# Altium footprint library IN-S126TASRGB.PcbLib: 1 footprints
Each footprint in its own frame and in the unit in brackets; x right, y up, seen from the top. Pads: shape width x height; smd on the part's side, far side on the other; paste and mask are expansions set on the pad; w line width, h text height; cw(c..) or ccw(c..) is an arc to the next point about the centre after c.
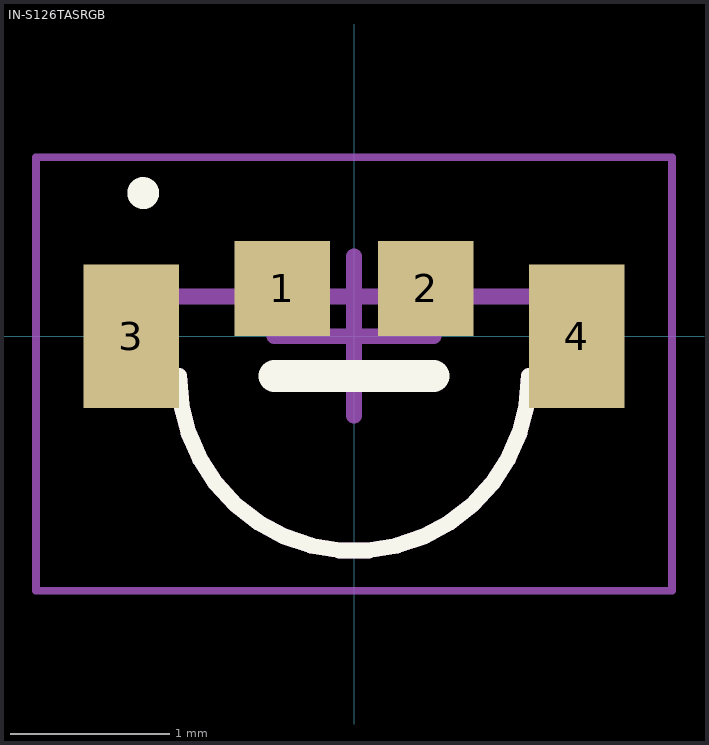
[diagram p0: the footprint, top view; thin cyan lines are the x and y axes]

## IN-S126TASRGB [mm] "Right angle RGB"
height 1
pads (4):
  rect 0.6x0.6 smd: 1(-0.45,0.3) 2(0.45,0.3)
  rect 0.6x0.9 smd: 3(-1.4,0) 4(1.4,0)
Top Overlay:
  circle w0.1: c-1.325,0.9 r0.05
  lines w0.1: -1.1,-0.25 ccw(c0,-0.25) 1.1,-0.25
  lines w0.2: -0.5,-0.25 0.5,-0.25
Mechanical 13:
  lines w0.1: -1.6,-0.25 -1.1,-0.25 ccw(c0,-0.25) 1.1,-0.25 1.6,-0.25 1.6,0.25 -1.6,0.25 -1.6,-0.25
Mechanical 15:
  lines w0.05: -2,-1.6 -2,1.125 2,1.125 2,-1.6 -2,-1.6
  lines w0.1: -0.5,0 0.5,0 ; 0,-0.5 0,0.5
3D body: height 1, standoff 0, extent -1.109,-1.359 1.109,-0.25
3D body: height 1, standoff 0, extent -1.6,-0.25 1.6,0.25